# Altium footprint library Pcblib_20110825.Pcblib: 407 footprints (part 17 of 26)
Each footprint in its own frame and in the unit in brackets; x right, y up, seen from the top. Pads: shape width x height; smd on the part's side, far side on the other; paste and mask are expansions set on the pad; w line width, h text height; cw(c..) or ccw(c..) is an arc to the next point about the centre after c.
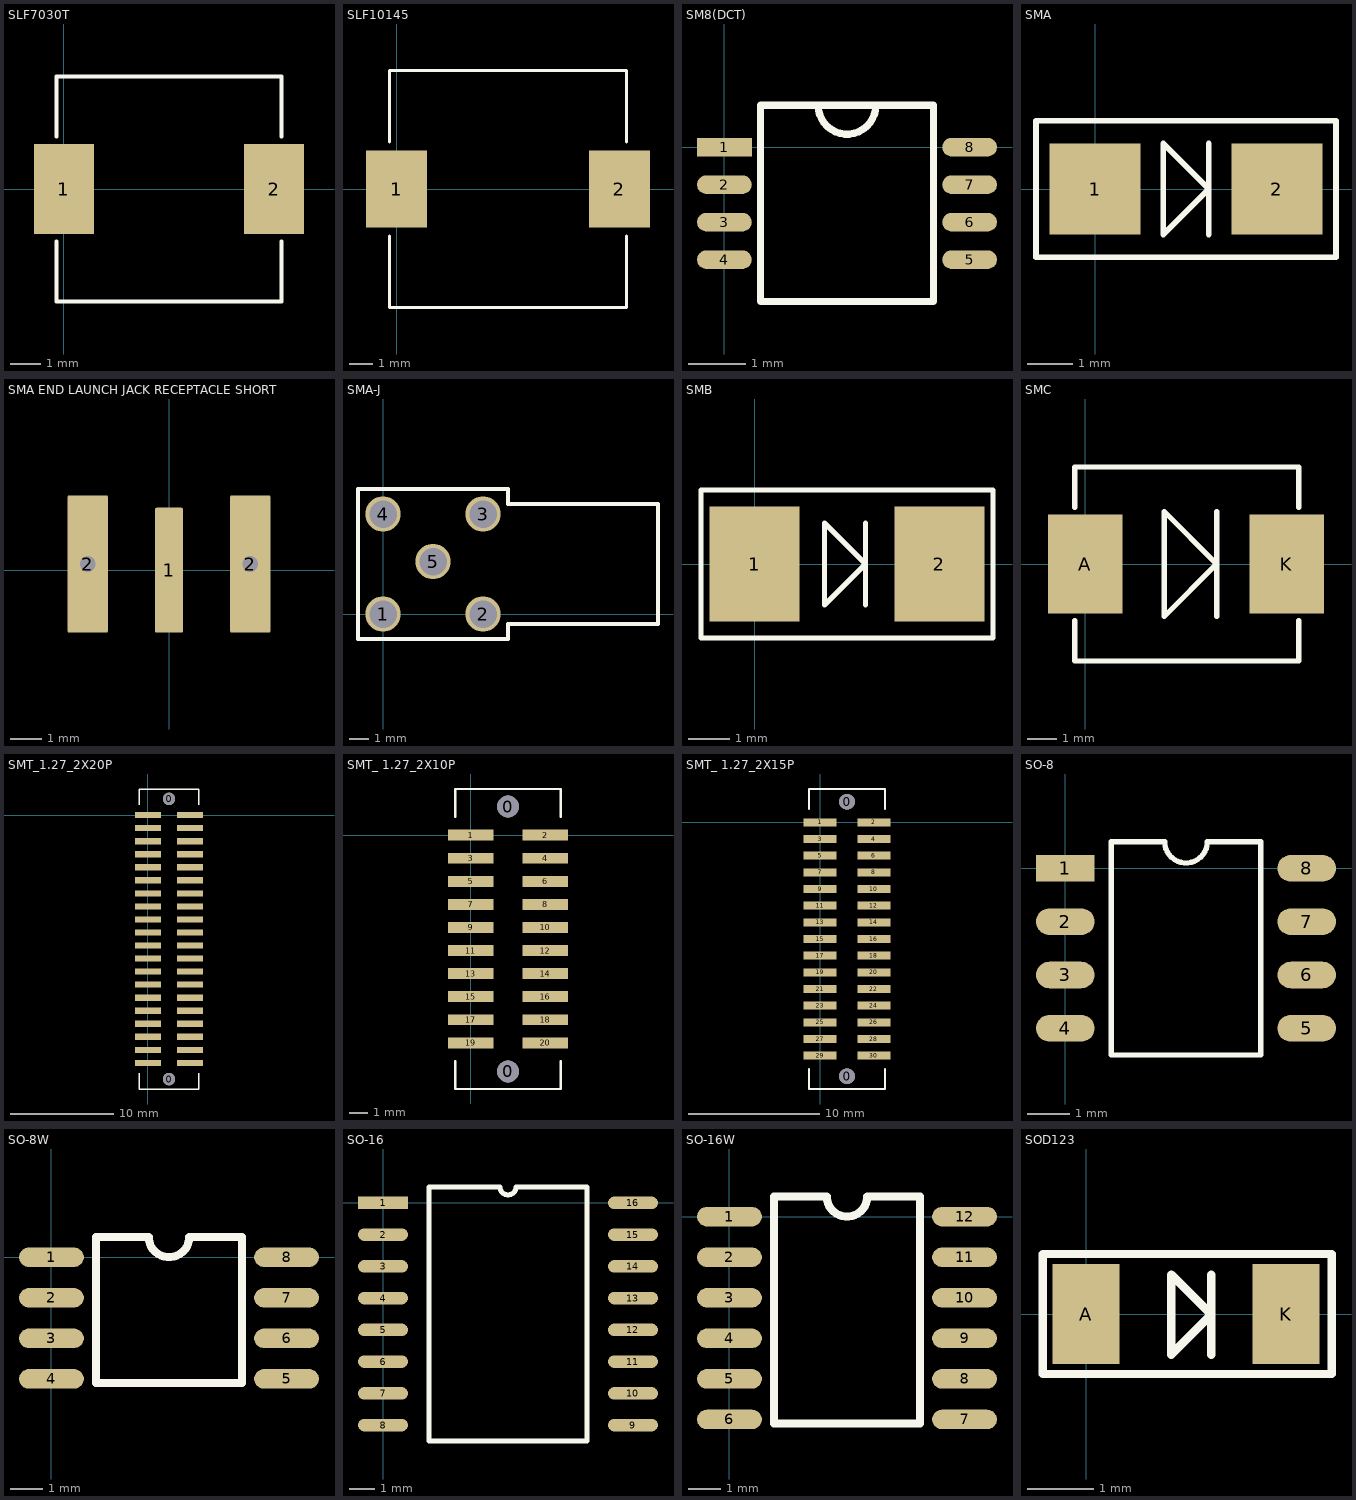
[diagram p16: the footprints below, top view; thin cyan lines are the x and y axes]

## SLF7030T [mm]
pads (2):
  rect 2x3 smd: 1(0,0) 2(7,0)
TopOverlay:
  lines w0.127: -0.25,-1.75 -0.25,-3.75 7.25,-3.75 7.25,-1.75 ; -0.25,1.75 -0.25,3.75 7.25,3.75 7.25,1.75

## SLF10145 [mm]
pads (2):
  rect 2.6x3.3 smd: 1(0,0) 2(9.5,0)
TopOverlay:
  lines w0.127: -0.3,-2 -0.3,-5.05 9.8,-5.05 9.8,-2 ; -0.3,2 -0.3,5.05 9.8,5.05 9.8,2

## SM8(DCT) [mm]
pads (8):
  rect 0.95x0.32 smd: 1(0,0)
  oval 0.95x0.32 smd: 2(0,-0.65) 3(0,-1.3) 4(0,-1.95) 5(4.25,-1.95) 6(4.25,-1.3) 7(4.25,-0.65) 8(4.25,0)
TopOverlay:
  lines w0.127: 1.625,0.725 ccw(c2.125,0.725) 2.625,0.725 ; 0.625,-2.675 0.625,0.725 3.625,0.725 3.625,-2.675 0.625,-2.675

## SMA [mm]
pads (2):
  rect 2x2 smd: 1(0,0) 2(4,0)
TopOverlay:
  lines w0.127: 2.5,-1 2.5,1 ; -1.3,-1.5 5.3,-1.5 5.3,1.5 -1.3,1.5 -1.3,-1.5 ; 1.5,-1 2.5,0 1.5,1 1.5,-1

## SMA END LAUNCH JACK RECEPTACLE SHORT [mm] "SMA Connector - End Launch Jack Receptacle - Short"
height 8
pads (3):
  rrect10% 0.9x4 smd paste+0 mask+0.05: 1(0,0)
  rrect10% 1.3x4.4 hole 0.5 mask+0.05: 2(-2.6,0.2) 2(2.6,0.2)
3D body: height 8, standoff 0, extent -0.5,-2.05 0.5,2.05

## SMA-J [mm]
height 1.85
pads (5):
  round 1.8 hole 1.397: 1(0,0) 2(5.08,0) 3(5.08,5.08) 4(0,5.08) 5(2.54,2.667)
TopOverlay:
  lines w0.203: -1.27,-1.27 -1.27,6.35 6.35,6.35 6.35,5.588 13.716,5.588 13.97,5.588 13.97,-0.508 6.35,-0.508 6.35,-1.27 -1.27,-1.27

## SMB [mm]
pads (2):
  rect 2.2x2.8 smd: 1(0,0) 2(4.5,0)
TopOverlay:
  lines w0.127: 2.7,-1 2.7,1 ; -1.3,-1.8 5.8,-1.8 5.8,1.8 -1.3,1.8 -1.3,-1.8 ; 1.7,-1 2.7,0 1.7,1 1.7,-1

## SMC [mm]
pads (2):
  rect 2.5x3.3 smd: A(0,0) K(6.75,0)
TopOverlay:
  lines w0.178: -0.35,-1.9 -0.35,-3.25 7.15,-3.25 7.15,-1.9 ; -0.35,1.9 -0.35,3.25 7.15,3.25 7.15,1.9 ; 4.4,-1.75 4.4,1.75 ; 2.65,-1.75 4.4,0 2.65,1.75 2.65,-1.75

## SMT_1.27_2X20P [mm]
pads (42):
  round 1.2 hole 1.2 unplated: 0(2.05,-25.705) 0(2.05,1.575)
  rect 2.5x0.6 smd: 1(0,0) 2(4.1,0) 3(0,-1.27) 4(4.1,-1.27) 5(0,-2.54) 6(4.1,-2.54) 7(0,-3.81) 8(4.1,-3.81) 9(0,-5.08) 10(4.1,-5.08) 11(0,-6.35) 12(4.1,-6.35) 13(0,-7.62) 14(4.1,-7.62) 15(0,-8.89) 16(4.1,-8.89) 17(0,-10.16) 18(4.1,-10.16) 19(0,-11.43) 20(4.1,-11.43) 21(0,-12.7) 22(4.1,-12.7) 23(0,-13.97) 24(4.1,-13.97) 25(0,-15.24) 26(4.1,-15.24) 27(0,-16.51) 28(4.1,-16.51) 29(0,-17.78) 30(4.1,-17.78) 31(0,-19.05) 32(4.1,-19.05) 33(0,-20.32) 34(4.1,-20.32) 35(0,-21.59) 36(4.1,-21.59) 37(0,-22.86) 38(4.1,-22.86) 39(0,-24.13) 40(4.1,-24.13)
TopOverlay:
  lines w0.127: -0.85,-25.146 -0.85,-26.67 4.95,-26.67 4.95,-25.146 ; -0.85,1.016 -0.85,2.54 4.95,2.54 4.95,1.016

## SMT_ 1.27_2X10P [mm]
pads (22):
  round 1.2 hole 1.2 unplated: 0(2.05,-13.005) 0(2.05,1.575)
  rect 2.5x0.6 smd: 1(0,0) 2(4.1,0) 3(0,-1.27) 4(4.1,-1.27) 5(0,-2.54) 6(4.1,-2.54) 7(0,-3.81) 8(4.1,-3.81) 9(0,-5.08) 10(4.1,-5.08) 11(0,-6.35) 12(4.1,-6.35) 13(0,-7.62) 14(4.1,-7.62) 15(0,-8.89) 16(4.1,-8.89) 17(0,-10.16) 18(4.1,-10.16) 19(0,-11.43) 20(4.1,-11.43)
TopOverlay:
  lines w0.127: -0.85,-12.446 -0.85,-13.97 4.95,-13.97 4.95,-12.446 ; -0.85,1.016 -0.85,2.54 4.95,2.54 4.95,1.016

## SMT_ 1.27_2X15P [mm]
pads (32):
  round 1.2 hole 1.2 unplated: 0(2.05,-19.355) 0(2.05,1.575)
  rect 2.5x0.6 smd: 1(0,0) 2(4.1,0) 3(0,-1.27) 4(4.1,-1.27) 5(0,-2.54) 6(4.1,-2.54) 7(0,-3.81) 8(4.1,-3.81) 9(0,-5.08) 10(4.1,-5.08) 11(0,-6.35) 12(4.1,-6.35) 13(0,-7.62) 14(4.1,-7.62) 15(0,-8.89) 16(4.1,-8.89) 17(0,-10.16) 18(4.1,-10.16) 19(0,-11.43) 20(4.1,-11.43) 21(0,-12.7) 22(4.1,-12.7) 23(0,-13.97) 24(4.1,-13.97) 25(0,-15.24) 26(4.1,-15.24) 27(0,-16.51) 28(4.1,-16.51) 29(0,-17.78) 30(4.1,-17.78)
TopOverlay:
  lines w0.127: -0.85,-18.796 -0.85,-20.32 4.95,-20.32 4.95,-18.796 ; -0.85,1.016 -0.85,2.54 4.95,2.54 4.95,1.016

## SO-8 [mil]
pads (8):
  rect 55x25 smd: 1(0,0)
  oval 55x25 smd: 2(0,-50) 3(0,-100) 4(0,-150) 5(226.38,-150) 6(226.38,-100) 7(226.38,-50) 8(226.38,0)
TopOverlay:
  lines w5: 43.19,-175 43.19,25 93.19,25 ccw(c113.19,25) 133.19,25 183.19,25 183.19,-175 43.19,-175

## SO-8W [mil]
height 59.06
pads (8):
  oval 80x24 smd: 1(0,0) 2(0,-50) 3(0,-100) 4(0,-150) 5(290,-150) 6(290,-100) 7(290,-50) 8(290,0)
TopOverlay:
  lines w10: 55,-155 55,25 120,25 ccw(c145,25) 170,25 235,25 235,-155 55,-155

## SO-16 [mm]
pads (16):
  rect 2x0.5 smd: 1(0,0)
  oval 2x0.5 smd: 2(0,-1.27) 3(0,-2.54) 4(0,-3.81) 5(0,-5.08) 6(0,-6.35) 7(0,-7.62) 8(0,-8.89) 9(10,-8.89) 10(10,-7.62) 11(10,-6.35) 12(10,-5.08) 13(10,-3.81) 14(10,-2.54) 15(10,-1.27) 16(10,0)
TopOverlay:
  lines w0.2: 1.835,-9.525 8.165,-9.525 8.165,0.635 5.318,0.635 cw(c5,0.635) 4.683,0.635 1.835,0.635 1.835,-9.525

## SO-16W [mil]
height 59.06
pads (12):
  oval 80x24 smd: 1(0,0) 2(0,-50) 3(0,-100) 4(0,-150) 5(0,-200) 6(0,-250) 7(290,-250) 8(290,-200) 9(290,-150) 10(290,-100) 11(290,-50) 12(290,0)
TopOverlay:
  lines w10: 55,-255 55,25 120,25 ccw(c145,25) 170,25 235,25 235,-255 ; 55,-255 235,-255 ; 55,-255 235,-255

## SOD123 [mm]
pads (2):
  rect 1x1.5 smd: A(0,0) K(3,0)
TopOverlay:
  lines w0.127: 1.88,-0.61 1.88,0.59 ; -0.65,-0.9 3.683,-0.9 3.683,0.9 -0.65,0.9 -0.65,-0.9 ; 1.28,-0.61 1.88,-0.01 1.28,0.59 1.28,-0.61